# Altium schematic symbol library Capacitor 10µF +-20% 10V 0603.SchLib: 1 symbol
Pins are listed as number, name and electrical type; pins without a type are passive.

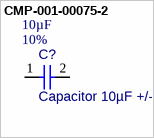
[diagram p0: symbol CMP-001-00075-2]

## CMP-001-00075-2
designator C?, comment Capacitor 10µF +/-20% 10V 0603  value 10µF  Tolerance: 10%  Mounting Technology: SMT  Pins: 2  Min Operating Temperature: -55°C  Case/Package: 0402  Max Operating Temperature: 85°C  Voltage Rating: 10V
Chip Capacitor, 10µF +/-20%, 10V, 0603, Thickness 1 mm
footprint CAPC0603(1608)100_L (Chip Capacitor, Body 1.6x0.8mm, Height 1.0mm, IPC High Density)
footprint CAPC0603(1608)100_L (Chip Capacitor, Body 1.6x0.8mm, Height 1.0mm, IPC High Density)
pins: 1, 2